# Altium footprint library WE-FAMI.PcbLib: 17 footprints (part 1 of 2)
Each footprint in its own frame and in the unit in brackets; x right, y up, seen from the top. Pads: shape width x height; smd on the part's side, far side on the other; paste and mask are expansions set on the pad; w line width, h text height; cw(c..) or ccw(c..) is an arc to the next point about the centre after c.
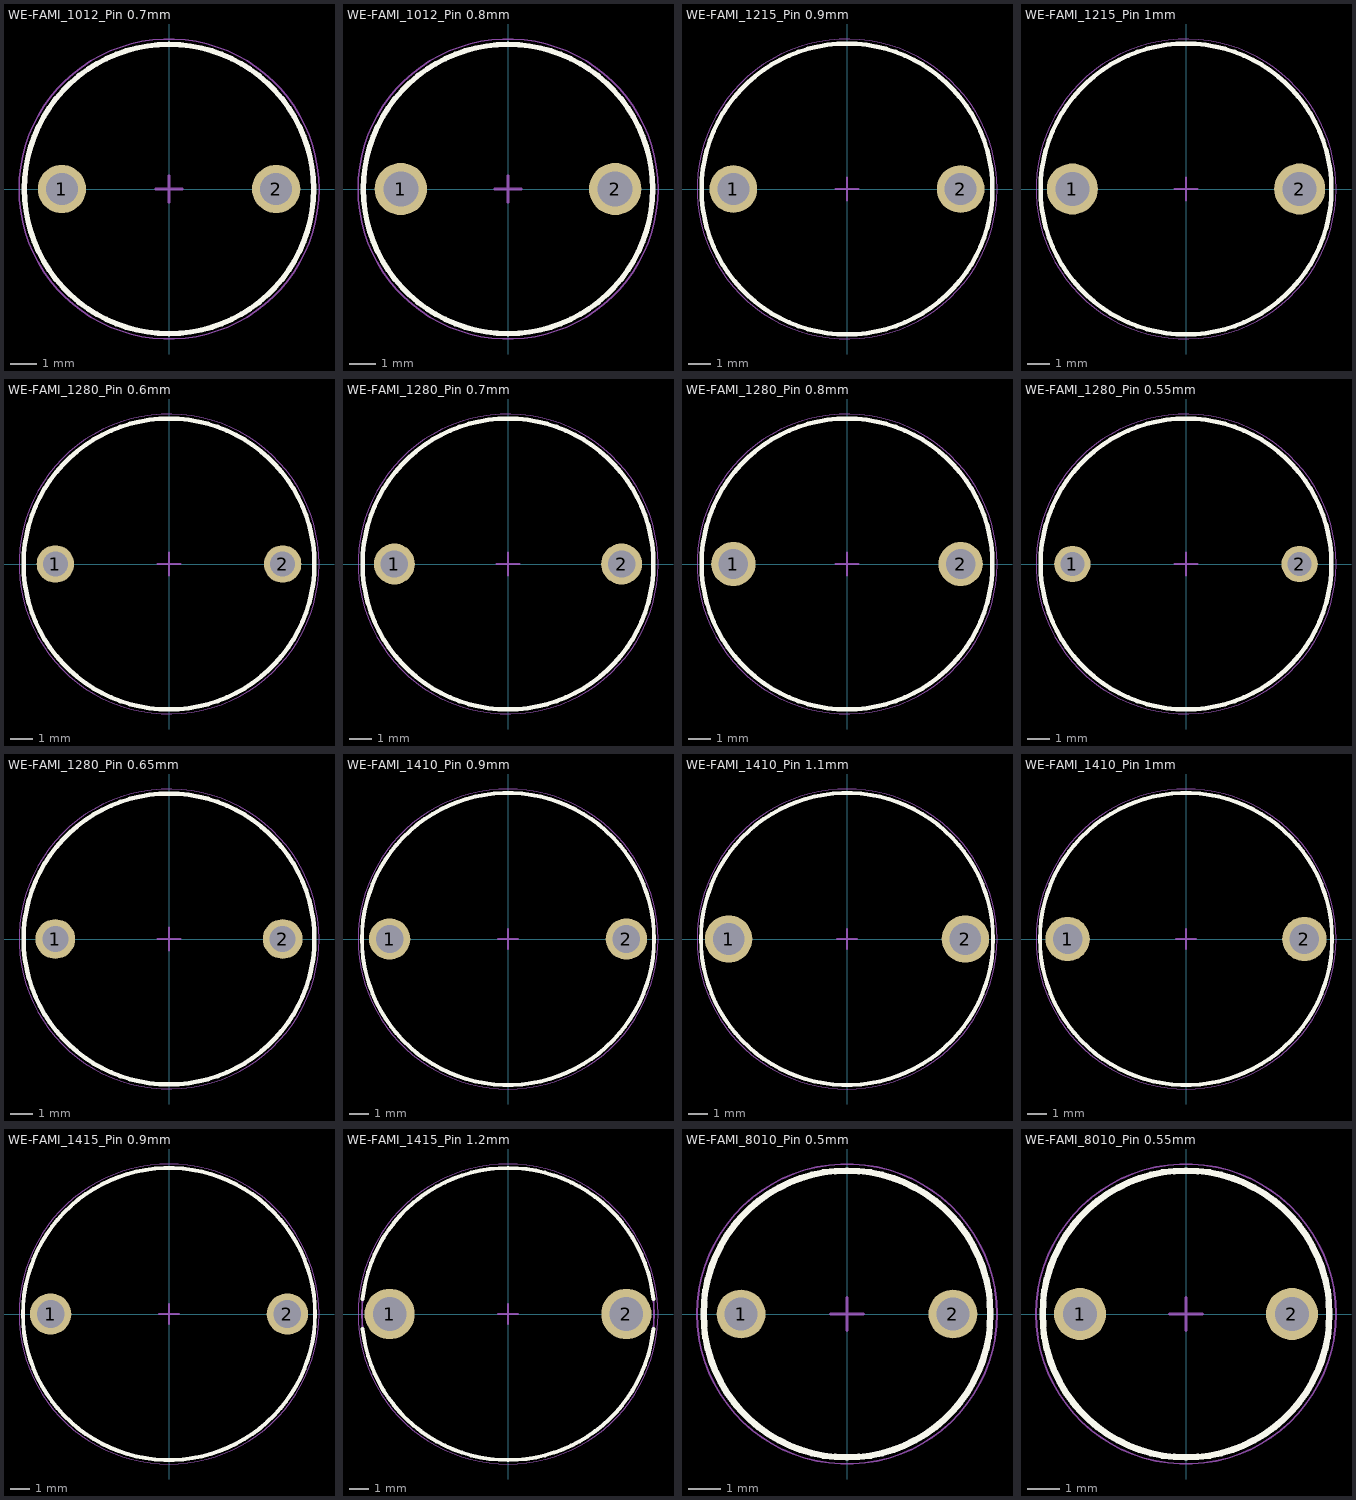
[diagram p0: the footprints below, top view; thin cyan lines are the x and y axes]

## WE-FAMI_1012_Pin 0.7mm [mm] "THT Power Inductor, 2-Leads, body diameter 10.8mm"
height 13
pads (2):
  round 1.8 hole 1.2: 1(-4,0) 2(4,0)
Top Overlay:
  circle w0.2: c0,0 r5.4
Top Assembly:
  circle w0.1: c0,0 r5.4
Top Designator:
  text ".Designator" at -3.647,-0.357 h1
Top 3D Body:
  circle w0.1: c0,0 r5.4
Top Courtyard:
  circle w0.05: c0,0 r5.6
Top Component Center:
  lines w0.1: -0.5,0 0.5,0 ; 0,-0.5 0,0.5
3D body "744750340xxx_Pin 0,7mm.stp": height 13.05, standoff -4.95, extent -5.4,-5.4 5.4,5.4

## WE-FAMI_1012_Pin 0.8mm [mm] "THT Power Inductor, 2-Leads, body diameter 10.8mm"
height 13
pads (2):
  round 1.95 hole 1.3: 1(-4,0) 2(4,0)
Top Overlay:
  circle w0.2: c0,0 r5.4
Top Assembly:
  circle w0.1: c0,0 r5.4
Top Designator:
  text ".Designator" at -3.647,-0.357 h1
Top 3D Body:
  circle w0.1: c0,0 r5.4
Top Courtyard:
  circle w0.05: c0,0 r5.6
Top Component Center:
  lines w0.1: -0.5,0 0.5,0 ; 0,-0.5 0,0.5
3D body "744750340xxx_Pin 0,8mm.stp": height 13.05, standoff -4.95, extent -5.4,-5.4 5.4,5.4

## WE-FAMI_1215_Pin 0.9mm [mm] "THT Power Inductor, 2-Leads, body diameter 12.8mm"
height 15.8
pads (2):
  round 2.1 hole 1.4: 1(-5,0) 2(5,0)
Top Overlay:
  circle w0.2: c0,0 r6.4
Top Assembly:
  circle w0.1: c0,0 r6.4
Top Designator:
  text ".Designator" at -3.647,-0.357 h1
Top 3D Body:
  circle w0.1: c0,0 r6.4
Top Courtyard:
  circle w0.05: c0,0 r6.6
Top Component Center:
  lines w0.1: -0.5,0 0.5,0 ; 0,-0.5 0,0.5
3D body "744750460xxx_Pin 0,9mm.stp": height 15.85, standoff -4.95, extent -6.4,-6.4 6.4,6.4

## WE-FAMI_1215_Pin 1mm [mm] "THT Power Inductor, 2-Leads, body diameter 12.8mm"
height 15.8
pads (2):
  round 2.25 hole 1.5: 1(-5,0) 2(5,0)
Top Overlay:
  circle w0.2: c0,0 r6.4
Top Assembly:
  circle w0.1: c0,0 r6.4
Top Designator:
  text ".Designator" at -3.647,-0.357 h1
Top 3D Body:
  circle w0.1: c0,0 r6.4
Top Courtyard:
  circle w0.05: c0,0 r6.6
Top Component Center:
  lines w0.1: -0.5,0 0.5,0 ; 0,-0.5 0,0.5
3D body "744750460xxx_Pin 1,0mm.stp": height 15.85, standoff -4.95, extent -6.4,-6.4 6.4,6.4

## WE-FAMI_1280_Pin 0.6mm [mm] "THT Power Inductor, 2-Leads, body diameter 12.8mm"
height 9
pads (2):
  round 1.65 hole 1.1: 1(-5,0) 2(5,0)
Top Overlay:
  circle w0.2: c0,0 r6.4
Top Assembly:
  circle w0.1: c0,0 r6.4
Top Designator:
  text ".Designator" at -3.647,-0.357 h1
Top 3D Body:
  circle w0.1: c0,0 r6.4
Top Courtyard:
  circle w0.05: c0,0 r6.6
Top Component Center:
  lines w0.1: -0.5,0 0.5,0 ; 0,-0.5 0,0.5
3D body "744750420xxx_Pin 0,6mm.stp": height 9.05, standoff -4.95, extent -6.4,-6.4 6.4,6.4

## WE-FAMI_1280_Pin 0.7mm [mm] "THT Power Inductor, 2-Leads, body diameter 12.8mm"
height 9
pads (2):
  round 1.8 hole 1.2: 1(-5,0) 2(5,0)
Top Overlay:
  circle w0.2: c0,0 r6.4
Top Assembly:
  circle w0.1: c0,0 r6.4
Top Designator:
  text ".Designator" at -3.647,-0.357 h1
Top 3D Body:
  circle w0.1: c0,0 r6.4
Top Courtyard:
  circle w0.05: c0,0 r6.6
Top Component Center:
  lines w0.1: -0.5,0 0.5,0 ; 0,-0.5 0,0.5
3D body "744750420xxx_Pin 0,7mm.stp": height 9.05, standoff -4.95, extent -6.4,-6.4 6.4,6.4

## WE-FAMI_1280_Pin 0.8mm [mm] "THT Power Inductor, 2-Leads, body diameter 12.8mm"
height 9
pads (2):
  round 1.95 hole 1.3: 1(-5,0) 2(5,0)
Top Overlay:
  circle w0.2: c0,0 r6.4
Top Assembly:
  circle w0.1: c0,0 r6.4
Top Designator:
  text ".Designator" at -3.647,-0.357 h1
Top 3D Body:
  circle w0.1: c0,0 r6.4
Top Courtyard:
  circle w0.05: c0,0 r6.6
Top Component Center:
  lines w0.1: -0.5,0 0.5,0 ; 0,-0.5 0,0.5
3D body "744750420xxx_Pin 0,8mm.stp": height 9.05, standoff -4.95, extent -6.4,-6.4 6.4,6.4

## WE-FAMI_1280_Pin 0.55mm [mm] "THT Power Inductor, 2-Leads, body diameter 12.8mm"
height 9
pads (2):
  round 1.6 hole 1.05: 1(-5,0) 2(5,0)
Top Overlay:
  circle w0.2: c0,0 r6.4
Top Assembly:
  circle w0.1: c0,0 r6.4
Top Designator:
  text ".Designator" at -3.647,-0.357 h1
Top 3D Body:
  circle w0.1: c0,0 r6.4
Top Courtyard:
  circle w0.05: c0,0 r6.6
Top Component Center:
  lines w0.1: -0.5,0 0.5,0 ; 0,-0.5 0,0.5
3D body "744750420xxx_Pin 0,55mm.stp": height 9.05, standoff -4.95, extent -6.4,-6.4 6.4,6.4

## WE-FAMI_1280_Pin 0.65mm [mm] "THT Power Inductor, 2-Leads, body diameter 12.8mm"
height 9
pads (2):
  round 1.75 hole 1.15: 1(-5,0) 2(5,0)
Top Overlay:
  circle w0.2: c0,0 r6.4
Top Assembly:
  circle w0.1: c0,0 r6.4
Top Designator:
  text ".Designator" at -3.647,-0.357 h1
Top 3D Body:
  circle w0.1: c0,0 r6.4
Top Courtyard:
  circle w0.05: c0,0 r6.6
Top Component Center:
  lines w0.1: -0.5,0 0.5,0 ; 0,-0.5 0,0.5
3D body "744750420xxx_Pin 0,65mm.stp": height 9.05, standoff -4.95, extent -6.4,-6.4 6.4,6.4

## WE-FAMI_1410_Pin 0.9mm [mm] "THT Power Inductor, 2-Leads, body diameter 14.8mm"
height 11
pads (2):
  round 2.1 hole 1.4: 1(-6,0) 2(6,0)
Top Overlay:
  circle w0.2: c0,0 r7.4
Top Assembly:
  circle w0.1: c0,0 r7.4
Top Designator:
  text ".Designator" at -3.647,-0.357 h1
Top 3D Body:
  circle w0.1: c0,0 r7.4
Top Courtyard:
  circle w0.05: c0,0 r7.6
Top Component Center:
  lines w0.1: -0.5,0 0.5,0 ; 0,-0.5 0,0.5
3D body "744750530xxx_Pin 0,9mm.stp": height 11.05, standoff -4.95, extent -7.4,-7.4 7.4,7.4

## WE-FAMI_1410_Pin 1.1mm [mm] "THT Power Inductor, 2-Leads, body diameter 14.8mm"
height 11
pads (2):
  round 2.4 hole 1.6: 1(-6,0) 2(6,0)
Top Overlay:
  circle w0.2: c0,0 r7.4
Top Assembly:
  circle w0.1: c0,0 r7.4
Top Designator:
  text ".Designator" at -3.647,-0.357 h1
Top 3D Body:
  circle w0.1: c0,0 r7.4
Top Courtyard:
  circle w0.05: c0,0 r7.6
Top Component Center:
  lines w0.1: -0.5,0 0.5,0 ; 0,-0.5 0,0.5
3D body "744750530xxx_Pin 1,1mm.stp": height 11.05, standoff -4.95, extent -7.4,-7.4 7.4,7.4

## WE-FAMI_1410_Pin 1mm [mm] "THT Power Inductor, 2-Leads, body diameter 14.8mm"
height 11
pads (2):
  round 2.25 hole 1.5: 1(-6,0) 2(6,0)
Top Overlay:
  circle w0.2: c0,0 r7.4
Top Assembly:
  circle w0.1: c0,0 r7.4
Top Designator:
  text ".Designator" at -3.647,-0.357 h1
Top 3D Body:
  circle w0.1: c0,0 r7.4
Top Courtyard:
  circle w0.05: c0,0 r7.6
Top Component Center:
  lines w0.1: -0.5,0 0.5,0 ; 0,-0.5 0,0.5
3D body "744750530xxx_Pin 1,0mm.stp": height 11.05, standoff -4.95, extent -7.4,-7.4 7.4,7.4

## WE-FAMI_1415_Pin 0.9mm [mm] "THT Power Inductor, 2-Leads, body diameter 14.8mm"
height 15.8
pads (2):
  round 2.1 hole 1.4: 1(-6,0) 2(6,0)
Top Overlay:
  circle w0.2: c0,0 r7.4
Top Assembly:
  circle w0.1: c0,0 r7.4
Top Designator:
  text ".Designator" at -3.647,-0.357 h1
Top 3D Body:
  circle w0.1: c0,0 r7.4
Top Courtyard:
  circle w0.05: c0,0 r7.6
Top Component Center:
  lines w0.1: -0.5,0 0.5,0 ; 0,-0.5 0,0.5
3D body "744750560xxx_Pin 0,9mm.stp": height 15.85, standoff -4.95, extent -7.4,-7.4 7.4,7.4

## WE-FAMI_1415_Pin 1.2mm [mm] "THT Power Inductor, 2-Leads, body diameter 14.8mm"
height 15.8
pads (2):
  round 2.55 hole 1.7: 1(-6,0) 2(6,0)
Top Overlay:
  lines w0.2: -7.362,-0.751 ccw(c0,0) 7.362,-0.746 ; -7.362,0.751 cw(c0,0) 7.362,0.746
Top Assembly:
  circle w0.1: c0,0 r7.4
Top Designator:
  text ".Designator" at -3.647,-0.357 h1
Top 3D Body:
  circle w0.1: c0,0 r7.4
Top Courtyard:
  circle w0.05: c0,0 r7.6
Top Component Center:
  lines w0.1: -0.5,0 0.5,0 ; 0,-0.5 0,0.5
3D body "744750560xxx_Pin 1,2mm.stp": height 15.85, standoff -4.95, extent -7.4,-7.4 7.4,7.4

## WE-FAMI_8010_Pin 0.5mm [mm] "THT Power Inductor, 2-Leads, body diameter 8.8mm"
height 11
pads (2):
  round 1.5 hole 1: 1(-3.25,0) 2(3.25,0)
Top Overlay:
  circle w0.2: c0,0 r4.4
Top Assembly:
  circle w0.1: c0,0 r4.4
Top Designator:
  text ".Designator" at -3.647,-0.357 h1
Top 3D Body:
  circle w0.1: c0,0 r4.4
Top Courtyard:
  circle w0.05: c0,0 r4.6
Top Component Center:
  lines w0.1: -0.5,0 0.5,0 ; 0,-0.5 0,0.5
3D body "744750230xxx_Pin 0,5mm.stp": height 11.05, standoff -4.95, extent -4.4,-4.4 4.4,4.4

## WE-FAMI_8010_Pin 0.55mm [mm] "THT Power Inductor, 2-Leads, body diameter 8.8mm"
height 11
pads (2):
  round 1.6 hole 1.05: 1(-3.25,0) 2(3.25,0)
Top Overlay:
  circle w0.2: c0,0 r4.4
Top Assembly:
  circle w0.1: c0,0 r4.4
Top Designator:
  text ".Designator" at -3.647,-0.357 h1
Top 3D Body:
  circle w0.1: c0,0 r4.4
Top Courtyard:
  circle w0.05: c0,0 r4.6
Top Component Center:
  lines w0.1: -0.5,0 0.5,0 ; 0,-0.5 0,0.5
3D body "744750230xxx_Pin 0,55mm.stp": height 11.05, standoff -4.95, extent -4.4,-4.4 4.4,4.4